# EAGLE library part PINHD-1X9 (library Gekkio-connector)
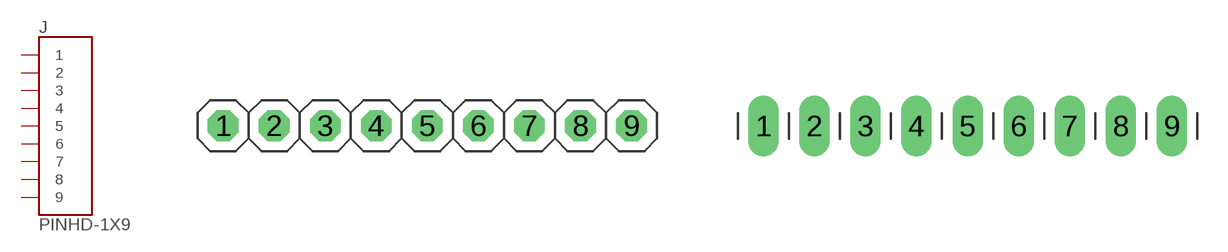
[diagram p4: symbol with the pads of 1X9; footprints 1X9, 1X9-LONGPADS]

Designator prefix J

## PINHD-1X9  [1X9]
1  1  pas
2  2  pas
3  3  pas
4  4  pas
5  5  pas
6  6  pas
7  7  pas
8  8  pas
9  9  pas

## PINHD-1X9LONGPADS  [1X9-LONGPADS]
Pads as for 1X9

## Footprint 1X9 (pad centres in mm)
drill 1.016 octagon: 1 -10.16,0; 2 -7.62,0; 3 -5.08,0; 4 -2.54,0; 5 0,0; 6 2.54,0; 7 5.08,0; 8 7.62,0; 9 10.16,0

## Footprint 1X9-LONGPADS (pad centres in mm)
drill 1.016 long: 1 -10.16,0; 2 -7.62,0; 3 -5.08,0; 4 -2.54,0; 5 0,0; 6 2.54,0; 7 5.08,0; 8 7.62,0; 9 10.16,0